# Altium schematic symbol library 202396-0207.SchLib: 1 symbol
Pins are listed as number, name and electrical type; pins without a type are passive.

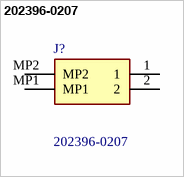
[diagram p0: symbol 202396-0207]

## 202396-0207
designator J?
Headers & Wire Housings 1mm PicoClasp SMT SR 2CKT RA HDR GLD PTL; Manufacturer_Name: Molex; Geometry.Height: 3.4mm; Mouser Part Number: 538-202396-0207; Mouser Price/Stock: https://www.mouser.co.uk/ProductDetail/Molex/202396-0207?qs=5aG0NVq1C4yNVNVdbFIdrw%3D%3D; Manufacturer_Part_Number: 202396-0207; Datasheet Link: https://www.molex.com/pdm_docs/sd/2023960207_sd.pdf
footprint 2023960207
pins: 1, 2, MP1, MP2